# Altium footprint library Main.PcbLib: 62 footprints (part 2 of 4)
Each footprint in its own frame and in the unit in brackets; x right, y up, seen from the top. Pads: shape width x height; smd on the part's side, far side on the other; paste and mask are expansions set on the pad; w line width, h text height; cw(c..) or ccw(c..) is an arc to the next point about the centre after c.
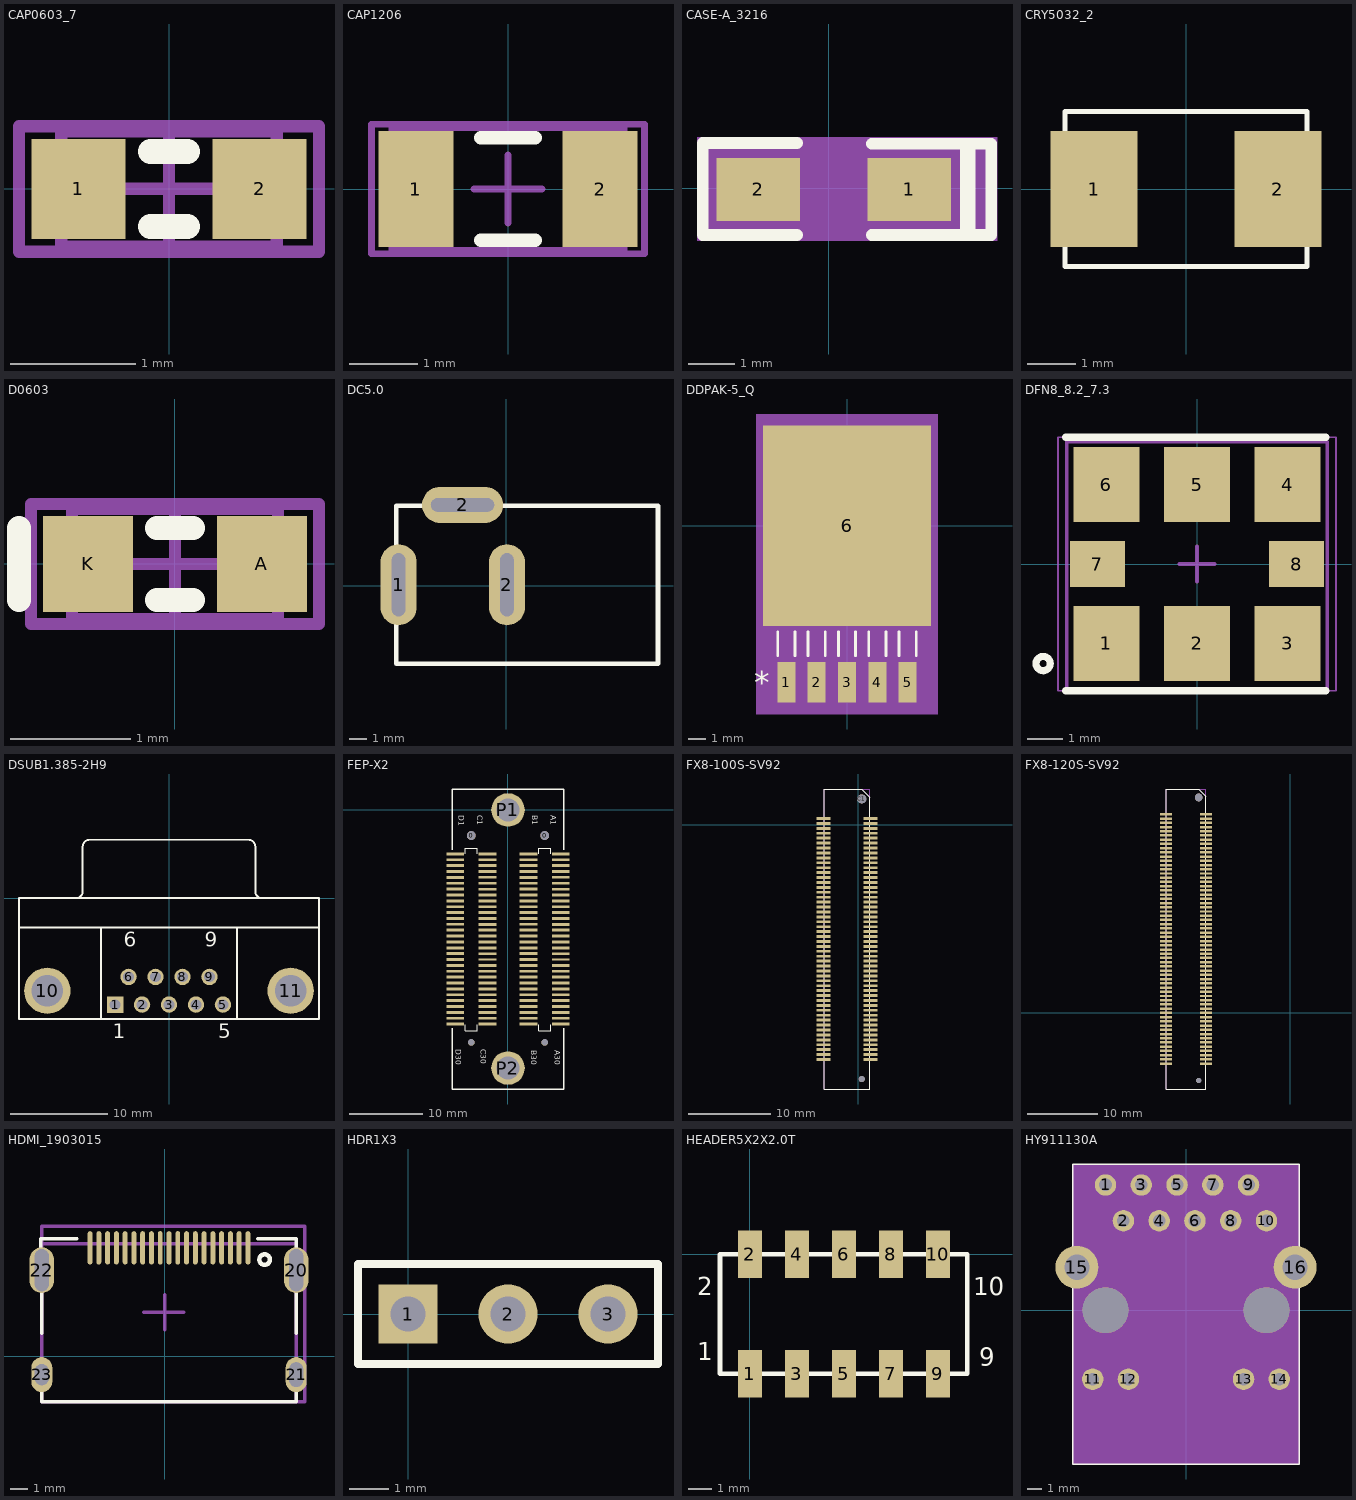
[diagram p1: the footprints below, top view; thin cyan lines are the x and y axes]

## CAP0603_7 [mm]
pads (2):
  rect 0.75x0.8 smd: 1(-0.725,0) 2(0.725,0)
Top Overlay:
  lines w0.2: -0.15,-0.3 0.15,-0.3 ; -0.15,0.3 0.15,0.3
Mechanical 13:
  lines w0.1: -0.86,-0.46 -0.86,0.46 0.86,0.46 0.86,-0.46 -0.86,-0.46
Mechanical 15:
  lines w0.1: -0.46,0 0.46,0 ; 0,-0.46 0,0.46 ; -1.2,-0.5 -1.2,0.5 1.2,0.5 1.2,-0.5 -1.2,-0.5
3D body: height 0.92, standoff 0, extent -0.86,-0.46 0.86,0.46

## CAP1206 [mm]
pads (2):
  rect 1.1x1.7 smd: 1(-1.35,0) 2(1.35,0)
Top Overlay:
  lines w0.2: -0.4,-0.75 0.4,-0.75 ; -0.4,0.75 0.4,0.75
Mechanical 13:
  lines w0.1: -1.7,-0.9 -1.7,0.9 1.7,0.9 1.7,-0.9 -1.7,-0.9
Mechanical 15:
  lines w0.1: -0.5,0 0.5,0 ; 0,-0.5 0,0.5 ; -2,-0.95 -2,0.95 2,0.95 2,-0.95 -2,-0.95
3D body: height 1.3, standoff 0, extent -1.7,-0.9 1.7,0.9

## CASE-A_3216 [mil]
pads (2):
  rect 71.5x53.5 smd: 1(69,-1) 2(-60,-1)
Top Overlay:
  lines w10: -27,-40 -107.4,-40 -107.4,38.8 -27,38.8 ; 37,-40 139,-40 139,38 37,38
  lines w13: 119,-38 119,36
Mechanical 4:
  region: -112.4,43.8 144,43.8 144,-45 -112.4,-45
Mechanical 5:
  region: -95.75,25.75 -24.25,25.75 -24.25,-27.75 -95.75,-27.75
  region: 33.25,25.75 104.75,25.75 104.75,-27.75 33.25,-27.75

## CRY5032_2 [mm]
pads (2):
  rect 1.8x2.4 smd: 1(-1.9,0) 2(1.9,0)
Top Overlay:
  lines w0.1: -2.5,-1.6 -2.5,1.6 2.5,1.6 2.5,-1.6 -2.5,-1.6
Mechanical 6:
  text "1" at -1.9,-0.572 h0.76
  text "2" at 1.9,-0.572 h0.76
Mechanical 7:
  lines w0.025: -2.5,-1.6 -2.5,1.6 2.5,1.6 2.5,-1.6 -2.5,-1.6
3D body: height 3.81, standoff 0, extent -3,-1.8 3,1.8

## D0603 [mm]
pads (2):
  rect 0.75x0.8 smd: A(0.725,0) K(-0.725,0)
Top Overlay:
  lines w0.2: -0.15,-0.3 0.15,-0.3 ; -0.15,0.3 0.15,0.3
  lines w0.203: -1.3,-0.3 -1.3,0.3
Mechanical 13:
  lines w0.1: -0.86,-0.46 0.86,-0.46 0.86,0.46 -0.86,0.46 -0.86,-0.46
Mechanical 15:
  lines w0.1: -0.46,0 0.46,0 ; 0,-0.46 0,0.46 ; -1.2,-0.5 1.2,-0.5 1.2,0.5 -1.2,0.5 -1.2,-0.5
3D body: height 0.92, standoff 0, extent -0.86,-0.46 0.86,0.46

## DC5.0 [mil]
pads (3):
  oval 80x180 hole 30 slot 140 at 90 deg: 1(-239,2) 2(1.16,2)
  oval 180x80 hole 30 slot 140 at 0 deg: 2(-97.27,179)
Top Overlay:
  lines w10: -244,-173 336,-173 336,177 -244,177 -244,-173

## DDPAK-5_Q [mil]
pads (6):
  rect 40x90 smd: 1(-134,-346.5) 2(-67,-346.5) 3(0,-346.5) 4(67,-346.5) 5(134,-346.5)
  rect 372x443 smd: 6(0,0)
Top Overlay:
  lines w6: -153,-287.5 -153,-234.6 ; -115,-287.5 -115,-234.6 ; -86,-287.5 -86,-234.6 ; -48,-287.5 -48,-234.6 ; -19,-287.5 -19,-234.6 ; 19,-287.5 19,-234.6 ; 48,-287.5 48,-234.6 ; 86,-287.5 86,-234.6 ; 115,-287.5 115,-234.6 ; 153,-287.5 153,-234.6
  text "*" at -205,-371.5 h50
Mechanical 5:
  region: -201,246.5 201,246.5 201,-416.5 -201,-416.5
Mechanical 13:
  lines w1: -185,-207.5 185,-207.5 185,207.5 -185,207.5 -185,-207.5 ; -153,-377.5 -153,-207.5 -115,-207.5 -115,-377.5 -153,-377.5 ; -86,-377.5 -86,-207.5 -48,-207.5 -48,-377.5 -86,-377.5 ; -19,-377.5 -19,-207.5 19,-207.5 19,-377.5 -19,-377.5 ; 48,-377.5 48,-207.5 86,-207.5 86,-377.5 48,-377.5 ; 115,-377.5 115,-207.5 153,-207.5 153,-377.5 115,-377.5
  text "*" at -146.5,-222.5 h50
Mechanical 15:
  region: -164,-231.5 -196,-231.5 -196,231.5 196,231.5 196,-231.5 164,-231.5 164,-401.5 -164,-401.5
  lines w6: -196,-231.5 -196,231.5 196,231.5 196,-231.5 164,-231.5 164,-401.5 -164,-401.5 -164,-231.5 -196,-231.5
3D body "TO-263BA.SLDPRT": height 172.5, standoff -0.04, extent -201.24,-367.99 201.26,185
3D body: height 10, standoff 0, extent 0,0 10,10

## DFN8_8.2_7.3 [mm]
pads (8):
  rect 1.85x2.1 smd: 1(-2.54,-2.227) 2(0,-2.227) 3(2.54,-2.227) 4(2.54,2.227) 5(0,2.227) 6(-2.54,2.227)
  rect 1.54x1.3 smd: 7(-2.794,0) 8(2.794,0)
Top Overlay:
  circle w0.2: c-4.318,-2.794 r0.2
  lines w0.2: -3.683,-3.556 3.617,-3.556 ; -3.683,3.556 3.617,3.556
Mechanical 13:
  lines w0.1: -3.65,-3.556 3.65,-3.556 3.65,3.429 -3.65,3.429 -3.65,-3.556
Mechanical 15:
  lines w0.05: -3.9,-3.556 3.9,-3.556 3.9,3.556 -3.9,3.556 -3.9,-3.556
  lines w0.1: -0.5,0 0.5,0 ; 0,-0.5 0,0.5
3D body: height 0.45, standoff 0, extent -3.65,-3.556 3.65,3.556

## DSUB1.385-2H9 [mm] "Connector; D Subminiature; 9 Position; Right Angle; Pitch 1.385 mm"
height 12.75
pads (11):
  rect 1.69x1.69 hole 1.09: 1(-5.54,-10.92)
  round 1.69 hole 1.09: 2(-2.77,-10.92) 3(0,-10.92) 4(2.77,-10.92) 5(5.54,-10.92) 6(-4.155,-8.08) 7(-1.385,-8.08) 8(1.385,-8.08) 9(4.155,-8.08)
  round 4.76 hole 3.26: 10(-12.495,-9.5) 11(12.495,-9.5)
Top Overlay:
  lines w0.2: -15.4,-3 15.4,-3 ; -9.56,0.005 ccw(c-9.56,0.7) -8.865,0.7 -8.865,5.3 ; -8.86,5.305 cw(c-8.165,5.305) -8.165,6 8.165,6 cw(c8.165,5.305) 8.86,5.305 ; -7,-12.4 -7,-3 ; 7,-12.4 7,-3 ; 8.865,5.3 8.865,0.7 ccw(c9.56,0.7) 9.56,0.005 ; -15.4,-12.4 -15.4,0 15.4,0 15.4,-12.4 -15.4,-12.4
  text "1" at -5.79,-14.375 h1.5
  text "5" at 5.04,-14.375 h1.5
  text "9" at 3.655,-4.975 h1.5
  text "6" at -4.655,-4.975 h1.5
3D body "DB9RA_M.SLDPRT": height 12.55, standoff -3.99, extent -15.367,-12.446 15.519,5.893

## FEP-X2 [mm]
pads (126):
  round 0.889 hole 0.889: 0(-5,-31.7) 0(5,-31.7)
  round 1.2 hole 1.2: 0(-5,-3.5) 0(5,-3.5)
  rect 2.4x0.4 smd: A1(7.2,-6) A2(7.2,-6.8) A3(7.2,-7.6) A4(7.2,-8.4) A8(7.2,-11.6) A9(7.2,-12.4) A10(7.2,-13.2) A11(7.2,-14) A12(7.2,-14.8) A13(7.2,-15.6) A14(7.2,-16.4) A15(7.2,-17.2) A16(7.2,-18) A17(7.2,-18.8) A20(7.2,-21.2) A21(7.2,-22) A22(7.2,-22.8) A23(7.2,-23.6) A24(7.2,-24.4) A25(7.2,-25.2) A26(7.2,-26) A27(7.2,-26.8) A28(7.2,-27.6) A29(7.2,-28.4) A30(7.2,-29.2) B1(2.8,-6) B2(2.8,-6.8) B3(2.8,-7.6) B4(2.8,-8.4) B5(2.8,-9.2) B6(2.8,-10) B7(2.8,-10.8) B8(2.8,-11.6) B9(2.8,-12.4) B10(2.8,-13.2) B11(2.8,-14) B12(2.8,-14.8) B14(2.8,-16.4) B15(2.8,-17.2) B16(2.8,-18) B17(2.8,-18.8) B18(2.8,-19.6) B19(2.8,-20.4) B20(2.8,-21.2) B21(2.8,-22) B22(2.8,-22.8) B23(2.8,-23.6) B24(2.8,-24.4) B25(2.8,-25.2) B26(2.8,-26) B27(2.8,-26.8) B28(2.8,-27.6) B29(2.8,-28.4) B30(2.8,-29.2) C1(-2.8,-6) C2(-2.8,-6.8) C3(-2.8,-7.6) C4(-2.8,-8.4) C8(-2.8,-11.6) C9(-2.8,-12.4) C10(-2.8,-13.2) C11(-2.8,-14) C12(-2.8,-14.8) C13(-2.8,-15.6) C14(-2.8,-16.4) C15(-2.8,-17.2) C16(-2.8,-18) C17(-2.8,-18.8) C20(-2.8,-21.2) C21(-2.8,-22) C22(-2.8,-22.8) C23(-2.8,-23.6) C24(-2.8,-24.4) C25(-2.8,-25.2) C26(-2.8,-26) C27(-2.8,-26.8) C28(-2.8,-27.6) C29(-2.8,-28.4) C30(-2.8,-29.2) D1(-7.2,-6) D2(-7.2,-6.8) D3(-7.2,-7.6) D4(-7.2,-8.4) D5(-7.2,-9.2) D6(-7.2,-10) D7(-7.2,-10.8) D8(-7.2,-11.6) D9(-7.2,-12.4) D10(-7.2,-13.2) D11(-7.2,-14) D12(-7.2,-14.8) D14(-7.2,-16.4) D15(-7.2,-17.2) D16(-7.2,-18) D17(-7.2,-18.8) D18(-7.2,-19.6) D19(-7.2,-20.4) D20(-7.2,-21.2) D21(-7.2,-22) D22(-7.2,-22.8) D23(-7.2,-23.6) D24(-7.2,-24.4) D25(-7.2,-25.2) D26(-7.2,-26) D27(-7.2,-26.8) D28(-7.2,-27.6) D29(-7.2,-28.4) D30(-7.2,-29.2)
  rect 2.4x0.33 smd: A5(7.2,-9.2) A6(7.2,-10) A7(7.2,-10.8) A18(7.2,-19.6) A19(7.2,-20.4) B13(2.8,-15.6) C5(-2.8,-9.2) C6(-2.8,-10) C7(-2.8,-10.8) C18(-2.8,-19.6) C19(-2.8,-20.4) D13(-7.2,-15.6)
  round 4.57 hole 3.1: P1(0,0) P2(0,-35.2)
Top Overlay:
  lines w0.152: -5.8,-29.3 -5.8,-30.1 -4.2,-30.1 ; -5.8,-6 -5.8,-5.2 -4.2,-5.2 -4.2,-6 ; 4.2,-6 4.2,-5.2 5.8,-5.2 5.8,-6 ; 5.8,-29.3 5.8,-30.1 4.2,-30.1 ; -4.2,-30.1 -4.2,-29.3 -4.2,-30.1 ; 4.2,-30.1 4.2,-29.3 4.2,-30.1
  lines w0.203: -7.62,-29.795 -7.62,-38.05 7.62,-38.05 7.62,-29.795 ; -7.62,-5.405 -7.62,2.85 7.62,2.85 7.62,-5.405
  text "C30" at -3.683,-32.639 h0.76
  text "D30" at -7.112,-32.639 h0.76
  text "C1" at -4.191,-0.762 h0.76
  text "D1" at -6.731,-0.762 h0.76
  text "A30" at 6.35,-32.766 h0.76
  text "B30" at 3.175,-32.766 h0.76
  text "A1" at 5.842,-0.762 h0.76
  text "B1" at 3.302,-0.762 h0.76
3D body: height 5, standoff 0, extent 2.286,-30.099 7.62,-5.207
3D body: height 5, standoff 0, extent -7.62,-30.099 -2.286,-5.207

## FX8-100S-SV92 [mm]
pads (102):
  rect 1.7x0.35 smd: A1(-4.221,0.782) A2(-4.221,0.182) A3(-4.221,-0.418) A4(-4.221,-1.018) A5(-4.221,-1.618) A6(-4.221,-2.218) A7(-4.221,-2.818) A8(-4.221,-3.418) A9(-4.221,-4.018) A10(-4.221,-4.618) A11(-4.221,-5.218) A12(-4.221,-5.818) A13(-4.221,-6.418) A14(-4.221,-7.018) A15(-4.221,-7.618) A16(-4.221,-8.218) A17(-4.221,-8.818) A18(-4.221,-9.418) A19(-4.221,-10.018) A20(-4.221,-10.618) A21(-4.221,-11.218) A22(-4.221,-11.818) A23(-4.221,-12.418) A24(-4.221,-13.018) A25(-4.221,-13.618) A26(-4.221,-14.218) A27(-4.221,-14.818) A28(-4.221,-15.418) A29(-4.221,-16.018) A30(-4.221,-16.618) A31(-4.221,-17.218) A32(-4.221,-17.818) A33(-4.221,-18.418) A34(-4.221,-19.018) A35(-4.221,-19.618) A36(-4.221,-20.218) A37(-4.221,-20.818) A38(-4.221,-21.418) A39(-4.221,-22.018) A40(-4.221,-22.618) A41(-4.221,-23.218) A42(-4.221,-23.818) A43(-4.221,-24.418) A44(-4.221,-25.018) A45(-4.221,-25.618) A46(-4.221,-26.218) A47(-4.221,-26.818) A48(-4.221,-27.418) A49(-4.221,-28.018) A50(-4.221,-28.618) B1(1.479,0.782) B2(1.479,0.182) B3(1.479,-0.418) B4(1.479,-1.018) B5(1.479,-1.618) B6(1.479,-2.218) B7(1.479,-2.818) B8(1.479,-3.418) B9(1.479,-4.018) B10(1.479,-4.618) B11(1.479,-5.218) B12(1.479,-5.818) B13(1.479,-6.418) B14(1.479,-7.018) B15(1.479,-7.618) B16(1.479,-8.218) B17(1.479,-8.818) B18(1.479,-9.418) B19(1.479,-10.018) B20(1.479,-10.618) B21(1.479,-11.218) B22(1.479,-11.818) B23(1.479,-12.418) B24(1.479,-13.018) B25(1.479,-13.618) B26(1.479,-14.218) B27(1.479,-14.818) B28(1.479,-15.418) B29(1.479,-16.018) B30(1.479,-16.618) B31(1.479,-17.218) B32(1.479,-17.818) B33(1.479,-18.418) B34(1.479,-19.018) B35(1.479,-19.618) B36(1.479,-20.218) B37(1.479,-20.818) B38(1.479,-21.418) B39(1.479,-22.018) B40(1.479,-22.618) B41(1.479,-23.218) B42(1.479,-23.818) B43(1.479,-24.418) B44(1.479,-25.018) B45(1.479,-25.618) B46(1.479,-26.218) B47(1.479,-26.818) B48(1.479,-27.418) B49(1.479,-28.018) B50(1.479,-28.618)
  round 1.092 hole 1.1: C1(0.429,3.182)
  round 0.711 hole 0.75: C2(0.429,-31.018)
Top Overlay:
  lines w0.1: -4.171,-32.218 1.429,-32.218 1.429,3.382 0.429,4.382 -4.171,4.382 -4.171,-32.218
Mechanical 6:
  text "C1" at -0.091,3.182 h0.76
Mechanical 7:
  lines w0.025: -4.171,-32.218 1.429,-32.218 1.429,4.382 -4.171,4.382 -4.171,-32.218
3D body: height 3.81, standoff 0, extent -4.191,-32.318 1.397,4.482

## FX8-120S-SV92 [mm]
pads (122):
  rect 1.7x0.35 smd: A1(-17.683,28.214) A2(-17.683,27.614) A3(-17.683,27.014) A4(-17.683,26.414) A5(-17.683,25.814) A6(-17.683,25.214) A7(-17.683,24.614) A8(-17.683,24.014) A9(-17.683,23.414) A10(-17.683,22.814) A11(-17.683,22.214) A12(-17.683,21.614) A13(-17.683,21.014) A14(-17.683,20.414) A15(-17.683,19.814) A16(-17.683,19.214) A17(-17.683,18.614) A18(-17.683,18.014) A19(-17.683,17.414) A20(-17.683,16.814) A21(-17.683,16.214) A22(-17.683,15.614) A23(-17.683,15.014) A24(-17.683,14.414) A25(-17.683,13.814) A26(-17.683,13.214) A27(-17.683,12.614) A28(-17.683,12.014) A29(-17.683,11.414) A30(-17.683,10.814) A31(-17.683,10.214) A32(-17.683,9.614) A33(-17.683,9.014) A34(-17.683,8.414) A35(-17.683,7.814) A36(-17.683,7.214) A37(-17.683,6.614) A38(-17.683,6.014) A39(-17.683,5.414) A40(-17.683,4.814) A41(-17.683,4.214) A42(-17.683,3.614) A43(-17.683,3.014) A44(-17.683,2.414) A45(-17.683,1.814) A46(-17.683,1.214) A47(-17.683,0.614) A48(-17.683,0.014) A49(-17.683,-0.586) A50(-17.683,-1.186) A51(-17.683,-1.786) A52(-17.683,-2.386) A53(-17.683,-2.986) A54(-17.683,-3.586) A55(-17.683,-4.186) A56(-17.683,-4.786) A57(-17.683,-5.386) A58(-17.683,-5.986) A59(-17.683,-6.586) A60(-17.683,-7.186) B1(-11.983,28.214) B2(-11.983,27.614) B3(-11.983,27.014) B4(-11.983,26.414) B5(-11.983,25.814) B6(-11.983,25.214) B7(-11.983,24.614) B8(-11.983,24.014) B9(-11.983,23.414) B10(-11.983,22.814) B11(-11.983,22.214) B12(-11.983,21.614) B13(-11.983,21.014) B14(-11.983,20.414) B15(-11.983,19.814) B16(-11.983,19.214) B17(-11.983,18.614) B18(-11.983,18.014) B19(-11.983,17.414) B20(-11.983,16.814) B21(-11.983,16.214) B22(-11.983,15.614) B23(-11.983,15.014) B24(-11.983,14.414) B25(-11.983,13.814) B26(-11.983,13.214) B27(-11.983,12.614) B28(-11.983,12.014) B29(-11.983,11.414) B30(-11.983,10.814) B31(-11.983,10.214) B32(-11.983,9.614) B33(-11.983,9.014) B34(-11.983,8.414) B35(-11.983,7.814) B36(-11.983,7.214) B37(-11.983,6.614) B38(-11.983,6.014) B39(-11.983,5.414) B40(-11.983,4.814) B41(-11.983,4.214) B42(-11.983,3.614) B43(-11.983,3.014) B44(-11.983,2.414) B45(-11.983,1.814) B46(-11.983,1.214) B47(-11.983,0.614) B48(-11.983,0.014) B49(-11.983,-0.586) B50(-11.983,-1.186) B51(-11.983,-1.786) B52(-11.983,-2.386) B53(-11.983,-2.986) B54(-11.983,-3.586) B55(-11.983,-4.186) B56(-11.983,-4.786) B57(-11.983,-5.386) B58(-11.983,-5.986) B59(-11.983,-6.586) B60(-11.983,-7.186)
  round 1.092 hole 1.1: C1(-13.033,30.614)
  round 0.711 hole 0.75: C2(-13.033,-9.586)
Top Overlay:
  lines w0.1: -17.633,-10.795 -12.033,-10.795 -12.033,30.814 -13.033,31.814 -17.633,31.814 -17.633,-10.795
Mechanical 7:
  lines w0.025: -17.633,-10.795 -12.033,-10.795 -12.033,31.814 -17.633,31.814 -17.633,-10.795
3D body: height 3.81, standoff 0, extent -17.623,-10.832 -12.065,31.877

## HDMI_1903015 [mm]
pads (23):
  oval 0.279x1.9 smd: 1(4.75,6.17) 2(4.25,6.17) 3(3.75,6.17) 4(3.25,6.17) 5(2.75,6.17) 6(2.25,6.17) 7(1.75,6.17) 8(1.25,6.17) 9(0.75,6.17) 10(0.25,6.17) 11(-0.25,6.17) 12(-0.75,6.17) 13(-1.25,6.17) 14(-1.75,6.17) 15(-2.25,6.17) 16(-2.75,6.17) 17(-3.25,6.17) 18(-3.75,6.17) 19(-4.25,6.17)
  oval 1.4x2.6 hole 0.8 slot 2.4 at 90 deg: 20(7.5,4.9) 22(-7,4.9)
  oval 1.2x2 hole 0.8 slot 1.4 at 90 deg: 21(7.5,-1.06)
  oval 1.2x2 hole 0.8 slot 1.2 at 90 deg: 23(-7,-1.06)
Top Overlay:
  circle w0.254: c5.7,5.5 r0.3
  lines w0.2: -7.065,6.7 -5,6.7 ; -5,6.7 -5,6.7
  lines w0.203: -7.065,6.1 -7.065,6.7 ; -7.014,-1.4 -7.014,-2.6 7.5,-2.6 7.5,-1.4 ; -7.014,1.303 -7.014,4.203 ; 5.3,6.7 7.5,6.7 7.5,6.1 ; 7.5,1.3 7.5,4.2
Mechanical 13:
  lines w0.203: -7.014,-2.6 -7.014,6.4 7.5,6.4 7.5,-2.6 -7.014,-2.6
Mechanical 15:
  lines w0.203: -1.2,2.5 1.1,2.5 ; 0,1.5 0,3.5 ; -7.014,-2.6 -7.014,7.4 8,7.4 8,-2.6 -7.014,-2.6
3D body: height 7, standoff 0.1, extent -7.014,-2.6 7.5,6.4

## HDR1X3 [mm]
pads (3):
  rect 1.5x1.5 hole 0.9: 1(0,0)
  round 1.5 hole 0.9: 2(2.54,0) 3(5.08,0)
Top Overlay:
  lines w0.2: -1.27,-1.27 -1.27,1.27 6.35,1.27 6.35,-1.27 -1.27,-1.27

## HEADER5X2X2.0T [mil]
pads (10):
  rect 40x80 smd: 1(0,-200) 2(0,0) 3(78.74,-200) 4(78.74,0) 5(157.48,-200) 6(157.48,0) 7(236.22,-200) 8(236.22,0) 9(314.96,-200) 10(314.96,0)
Top Overlay:
  lines w7.87: -50,-200 -50,0 364.17,0 364.17,-200 -50,-200
  text "2" at -88.58,-68.9 h30
  text "1" at -88.58,-177.17 h30
  text "9" at 383.86,-187.01 h30
  text "10" at 374.02,-68.9 h30
3D body "Jtag10pin.STEP": height 212.6, standoff -82.68, extent -94.01,-201.57 404.02,0.4

## HY911130A [mil]
pads (18):
  round 60 hole 35: 1(-225,350) 2(-175,250) 3(-125,350) 4(-75,250) 5(-25,350) 6(25,250) 7(75,350) 8(125,250) 9(175,350) 10(225,250) 11(-260.83,-192.91) 12(-160.83,-192.91) 13(160.83,-192.91) 14(260.83,-192.91)
  round 120 hole 70: 15(-304.92,120.08) 16(304.92,120.08)
  round 128 hole 128: " "(-225,0) " "(225,0)
Top Overlay:
  lines w3.94: -316.93,-429.92 -316.93,408.66 316.93,408.66 316.93,-429.92 -316.93,-429.92
Mechanical 6:
  text "1" at -225,324.9 h30
  text "15" at -304.92,82.38 h30
  text "16" at 304.92,82.38 h30
  text "2" at -175,224.9 h30
  text "3" at -125,324.9 h30
  text "4" at -75,224.9 h30
  text "7" at 75,324.9 h30
  text "5" at -25,324.9 h30
  text "6" at 25,224.9 h30
  text "8" at 125,224.9 h30
  text "9" at 175,324.9 h30
Mechanical 7:
  lines w1: -316.93,-429.92 -316.93,408.66 316.93,408.66 316.93,-429.92 -316.93,-429.92
Mechanical 8:
  region: -316.93,-429.92 316.93,-429.92 316.93,408.66 -316.93,408.66
  lines w3.94: -59.06,-59.06 0,0 ; 0,-192.91 0,0 ; 59.06,-59.06 0,0
3D body: height 10, standoff -842.52, extent -110,20 -110,20
3D body "HR911105A.sldprt": height 531.5, standoff -118.11, extent -312.39,-433.13 312.81,409.39